# EAGLE library part 691401710016 (library Wuerth_Elektronik_eiCan_Terminal_Blocks_v2.0)
WR-TBL Serie 401 - 5.0mm Screwless Horizontal Entry - 2 mm2 Wires, 16 Pins
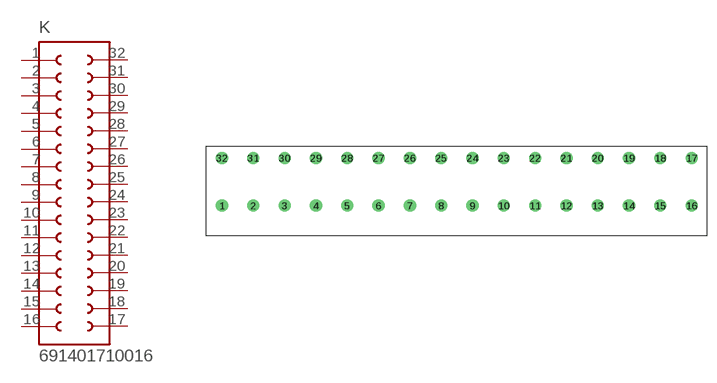
[diagram p245: symbol with the pads of 691401710016; footprint 691401710016]

Designator prefix K

## 691401710016  [691401710016]
1  1  pas
2  2  pas
3  3  pas
4  4  pas
5  5  pas
6  6  pas
7  7  pas
8  8  pas
9  9  pas
10  10  pas
11  11  pas
12  12  pas
13  13  pas
14  14  pas
15  15  pas
16  16  pas
17  17  pas
18  18  pas
19  19  pas
20  20  pas
21  21  pas
22  22  pas
23  23  pas
24  24  pas
25  25  pas
26  26  pas
27  27  pas
28  28  pas
29  29  pas
30  30  pas
31  31  pas
32  32  pas

## Footprint 691401710016 (pad centres in mm)
WR-TBL Serie 401 - 5.0mm Screwless Horizontal Entry - 2 mm2 Wires, 16 Pins
drill 1.3 round: 1 -65,0; 2 -60,0; 3 -55,0; 4 -50,0; 5 -45,0; 6 -40,0; 7 -35,0; 8 -30,0; 9 -25,0; 10 -20,0; 11 -15,0; 12 -10,0; 13 -5,0; 14 0,0; 15 5,0; 16 10,0; 17 10,7.62; 18 5,7.62; 19 0,7.62; 20 -5,7.62; 21 -10,7.62; 22 -15,7.62; 23 -20,7.62; 24 -25,7.62; 25 -30,7.62; 26 -35,7.62; 27 -40,7.62; 28 -45,7.62; 29 -50,7.62; 30 -55,7.62; 31 -60,7.62; 32 -65,7.62